# Altium schematic symbol library Telemetry.SchLib: 1 symbol
Pins are listed as number, name and electrical type; pins without a type are passive.

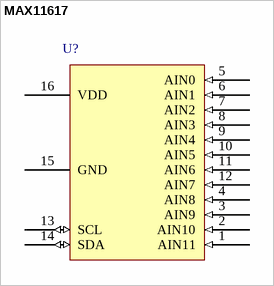
[diagram p0: symbol MAX11617]

## MAX11617
designator U?  (value not drawn)
Datasheet: http://datasheets.maximintegrated.com/en/ds/MAX11612-MAX11617.pdf
footprint QSOP16 (SOP, 16-Leads, Body 5.0x4.0mm (max), Pitch 0.63mm, IPC Medium Density)
pins: 1 AIN11 (in), 2 AIN10 (in), 3 AIN9 (in), 4 AIN8 (in), 5 AIN0 (in), 6 AIN1 (in), 7 AIN2 (in), 8 AIN3 (in), 9 AIN4 (in), 10 AIN5 (in), 11 AIN6 (in), 12 AIN7 (in), 13 SCL (io), 14 SDA (io), 15 GND (power), 16 VDD (power)